# EAGLE library part LM4991 (library Audio-Power-amlifier V.2.0)
The LM4991 is a mono bridged audio power amplifier capable of delivering 3W of continuous average power into a 3Ω load with less than 10% THD when powered by a 5V power supply (see Note below). To conserve power in portable applications, the LM4991's micropower shutdown mode (ISD = 0.1μA, typ) is activated when VDD is applied to the SHUTDOWN pin.
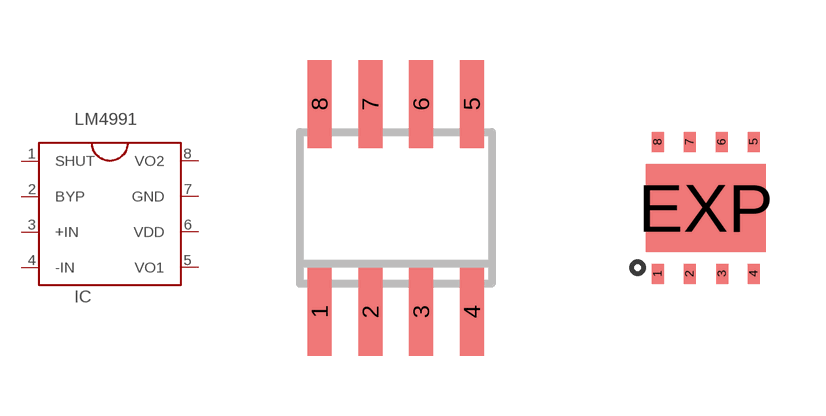
[diagram p153: symbol with the pads of SOIC8; footprints SOIC8, WSON8]

Designator prefix IC

## LM4991LM4991MAX/NOPB  [SOIC8]
1  SHUT  in
2  BYP  in
3  +IN  in
4  -IN  in
5  VO1  out
6  VDD  pwr
7  GND  pwr
8  VO2  out

## LM4991LM4991LDX/NOPB  [WSON8]
Pads as for SOIC8

## Footprint SOIC8 (pad centres in mm)
Small Outline IC
smd 0.6 x 2.2: 1 -1.905,-2.6; 2 -0.635,-2.6; 3 0.635,-2.6; 4 1.905,-2.6; 5 1.905,2.6; 6 0.635,2.6; 7 -0.635,2.6; 8 -1.905,2.6

## Footprint WSON8 (pad centres in mm)
LLP4x4 body. http://www.ti.com/sc/docs/package/guide.htm
smd 0.3 x 0.5: 1 -1.2,-1.65; 2 -0.4,-1.65; 3 0.41,-1.65; 4 1.2,-1.65; 5 1.2,1.65; 6 0.4,1.65; 7 -0.4,1.65; 8 -1.2,1.65
smd 3 x 2.2: EXP 0,0